# Altium footprint library PCB - BUTTONS - TE FSM1LPATR.PCBLIB: 1 footprints
Each footprint in its own frame and in the unit in brackets; x right, y up, seen from the top. Pads: shape width x height; smd on the part's side, far side on the other; paste and mask are expansions set on the pad; w line width, h text height; cw(c..) or ccw(c..) is an arc to the next point about the centre after c.
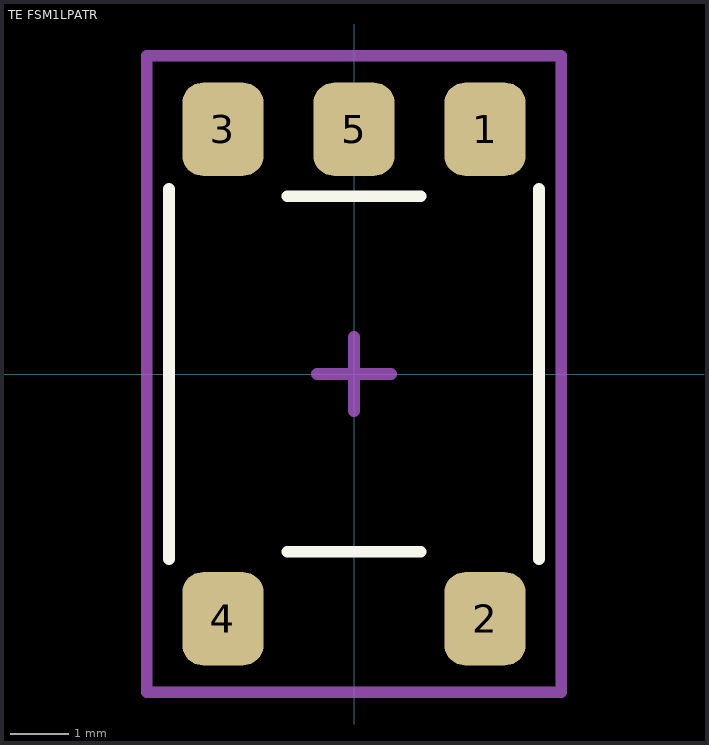
[diagram p0: the footprint, top view; thin cyan lines are the x and y axes]

## TE FSM1LPATR [mm]
height 3.1
pads (5):
  rrect50% 1.395x1.6 smd: 1(2.25,4.2) 2(2.25,-4.2) 3(-2.25,4.2) 4(-2.25,-4.2) 5(0,4.2)
Top Overlay:
  lines w0.2: -3.175,-3.175 -3.175,3.175 ; -1.143,-3.048 1.143,-3.048 ; -1.143,3.048 1.143,3.048 ; 3.175,-3.175 3.175,3.175
Mechanical 15:
  lines w0.2: -3.556,-5.461 3.556,-5.461 3.556,5.461 -3.556,5.461 -3.556,-5.461
Mechanical 2 (Mech9):
  lines w0.2: -0.635,0 0.635,0 ; 0,-0.635 0,0.635
3D body "FSM1LPATR.STEP": height 3.1, standoff 0, extent -3.1,-4 3.1,4